# Altium schematic symbol library Custom..SchLib: 4 symbols
Pins are listed as number, name and electrical type; pins without a type are passive.

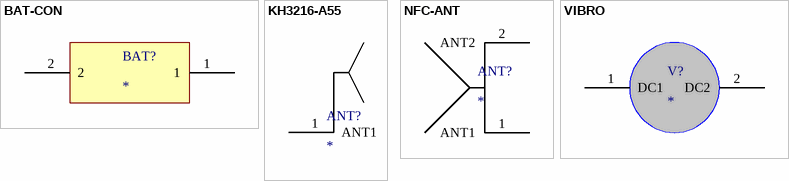
[diagram p0: symbols BAT-CON to VIBRO]

## BAT-CON
designator BAT?
footprint BAT-CON
pins: 1 (power), 2 (power)

## KH3216-A55
designator ANT?
footprint KH3216-A55
pins: 1 ANT1

## NFC-ANT
designator ANT?
footprint NFC-ANT
pins: 1 ANT1, 2 ANT2

## VIBRO
designator V?
footprint VIBRO
pins: 1 DC1, 2 DC2